# Altium footprint library pcb_STM32F401RB.PcbLib: 3 footprints
Each footprint in its own frame and in the unit in brackets; x right, y up, seen from the top. Pads: shape width x height; smd on the part's side, far side on the other; paste and mask are expansions set on the pad; w line width, h text height; cw(c..) or ccw(c..) is an arc to the next point about the centre after c.
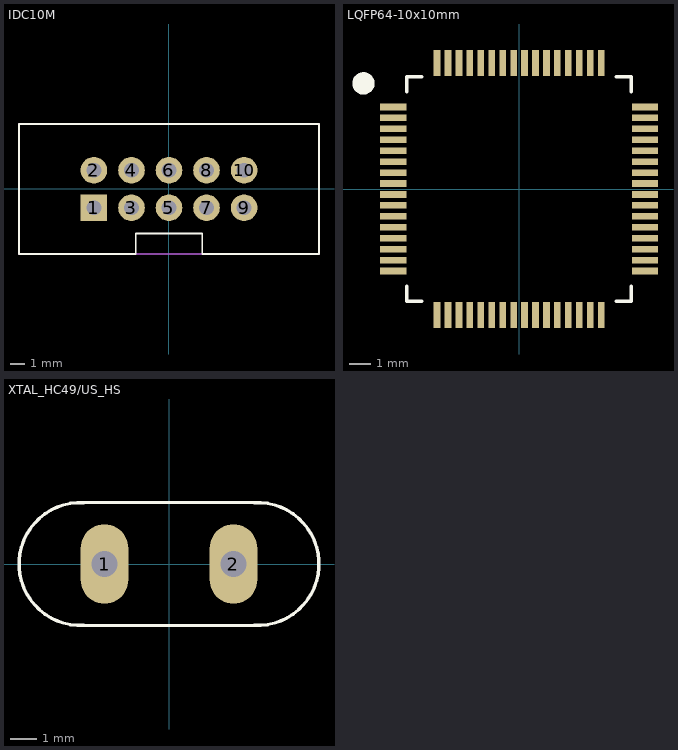
[diagram p0: the footprints below, top view; thin cyan lines are the x and y axes]

## IDC10M [mm] "10 pin IDC male header connector"
height 9.1
pads (10):
  rect 1.8x1.8 hole 1: 1(-5.08,-1.27)
  round 1.8 hole 1: 2(-5.08,1.27) 3(-2.54,-1.27) 4(-2.54,1.27) 5(0,-1.27) 6(0,1.27) 7(2.54,-1.27) 8(2.54,1.27) 9(5.08,-1.27) 10(5.08,1.27)
Top Overlay:
  lines w0.127: -10.15,-4.4 -2.25,-4.4 -2.25,-3 2.25,-3 2.25,-4.4 10.15,-4.4 10.15,4.4 -10.15,4.4 -10.15,-4.4
Mechanical 13:
  lines w0.127: 10.15,4.4 10.15,-4.4 -10.15,-4.4 -10.15,4.4 10.15,4.4
3D body "IDC10M_2_54mm.STEP": height 9.3, standoff -3.1, extent -10.15,-4.4 10.15,4.7

## LQFP64-10x10mm [mm]
pads (64):
  rect 1.194x0.305 smd: 1(-5.75,3.75) 2(-5.75,3.25) 3(-5.75,2.75) 4(-5.75,2.25) 5(-5.75,1.75) 6(-5.75,1.25) 7(-5.75,0.75) 8(-5.75,0.25) 9(-5.75,-0.25) 10(-5.75,-0.75) 11(-5.75,-1.25) 12(-5.75,-1.75) 13(-5.75,-2.25) 14(-5.75,-2.75) 15(-5.75,-3.25) 16(-5.75,-3.75) 33(5.75,-3.75) 34(5.75,-3.25) 35(5.75,-2.75) 36(5.75,-2.25) 37(5.75,-1.75) 38(5.75,-1.25) 39(5.75,-0.75) 40(5.75,-0.25) 41(5.75,0.25) 42(5.75,0.75) 43(5.75,1.25) 44(5.75,1.75) 45(5.75,2.25) 46(5.75,2.75) 47(5.75,3.25) 48(5.75,3.75)
  rect 0.305x1.194 smd: 17(-3.75,-5.75) 18(-3.25,-5.75) 19(-2.75,-5.75) 20(-2.25,-5.75) 21(-1.75,-5.75) 22(-1.25,-5.75) 23(-0.75,-5.75) 24(-0.25,-5.75) 25(0.25,-5.75) 26(0.75,-5.75) 27(1.25,-5.75) 28(1.75,-5.75) 29(2.25,-5.75) 30(2.75,-5.75) 31(3.25,-5.75) 32(3.75,-5.75) 49(3.75,5.75) 50(3.25,5.75) 51(2.75,5.75) 52(2.25,5.75) 53(1.75,5.75) 54(1.25,5.75) 55(0.75,5.75) 56(0.25,5.75) 57(-0.25,5.75) 58(-0.75,5.75) 59(-1.25,5.75) 60(-1.75,5.75) 61(-2.25,5.75) 62(-2.75,5.75) 63(-3.25,5.75) 64(-3.75,5.75)
Top Overlay:
  circle w0.52: c-7.112,4.826 r0.25
  lines w0.152: -5.131,-4.445 -5.131,-5.131 -4.445,-5.131 ; -5.131,4.445 -5.131,5.131 -4.445,5.131 ; 4.445,-5.131 5.131,-5.131 5.131,-4.445 ; 4.445,5.131 5.131,5.131 5.131,4.445

## XTAL_HC49/US_HS [mm]
pads (2):
  oval 1.8x3 hole 1: 1(-2.44,0) 2(2.44,0)
Top Overlay:
  lines w0.127: -3.35,-2.325 3.35,-2.325 ; -3.35,2.325 3.35,2.325 ; -3.219,-2.321 cw(c-3.35,0) -3.219,2.321 ; 3.219,-2.321 ccw(c3.35,0) 3.219,2.321
3D body: height 1, standoff 0, extent -5.588,-2.286 5.588,2.286